# EAGLE library part DP83848C_ETH_BRD_CON (library connectors)
DP83848C Ethernet Board Connector Connector for DP83848C board from Waveshare. http://www.wvshare.com/product/DP83848-Ethernet-Board.htm
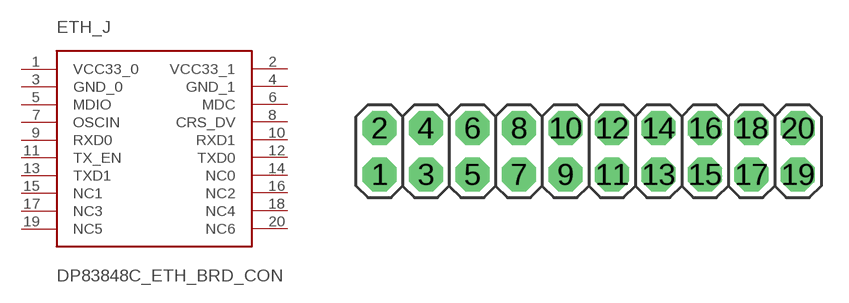
[diagram p1: symbol with the pads of 2X10; footprint 2X10]

Designator prefix ETH_J

## DP83848C_ETH_BRD_CON  [2X10]
1  VCC33_0  pwr
2  VCC33_1  pwr
3  GND_0  pwr
4  GND_1  pwr
5  MDIO
6  MDC
7  OSCIN
8  CRS_DV
9  RXD0
10  RXD1
11  TX_EN
12  TXD0
13  TXD1
14  NC0  nc
15  NC1  nc
16  NC2  nc
17  NC3  nc
18  NC4  nc
19  NC5  nc
20  NC6  nc

## Footprint 2X10 (pad centres in mm)
PIN HEADER
drill 1.016 pad 1.88 octagon: 1 -11.43,-1.27; 2 -11.43,1.27; 3 -8.89,-1.27; 4 -8.89,1.27; 5 -6.35,-1.27; 6 -6.35,1.27; 7 -3.81,-1.27; 8 -3.81,1.27; 9 -1.27,-1.27; 10 -1.27,1.27; 11 1.27,-1.27; 12 1.27,1.27; 13 3.81,-1.27; 14 3.81,1.27; 15 6.35,-1.27; 16 6.35,1.27; 17 8.89,-1.27; 18 8.89,1.27; 19 11.43,-1.27; 20 11.43,1.27